# Altium footprint library All.PcbLib: 121 footprints (part 2 of 8)
Each footprint in its own frame and in the unit in brackets; x right, y up, seen from the top. Pads: shape width x height; smd on the part's side, far side on the other; paste and mask are expansions set on the pad; w line width, h text height; cw(c..) or ccw(c..) is an arc to the next point about the centre after c.
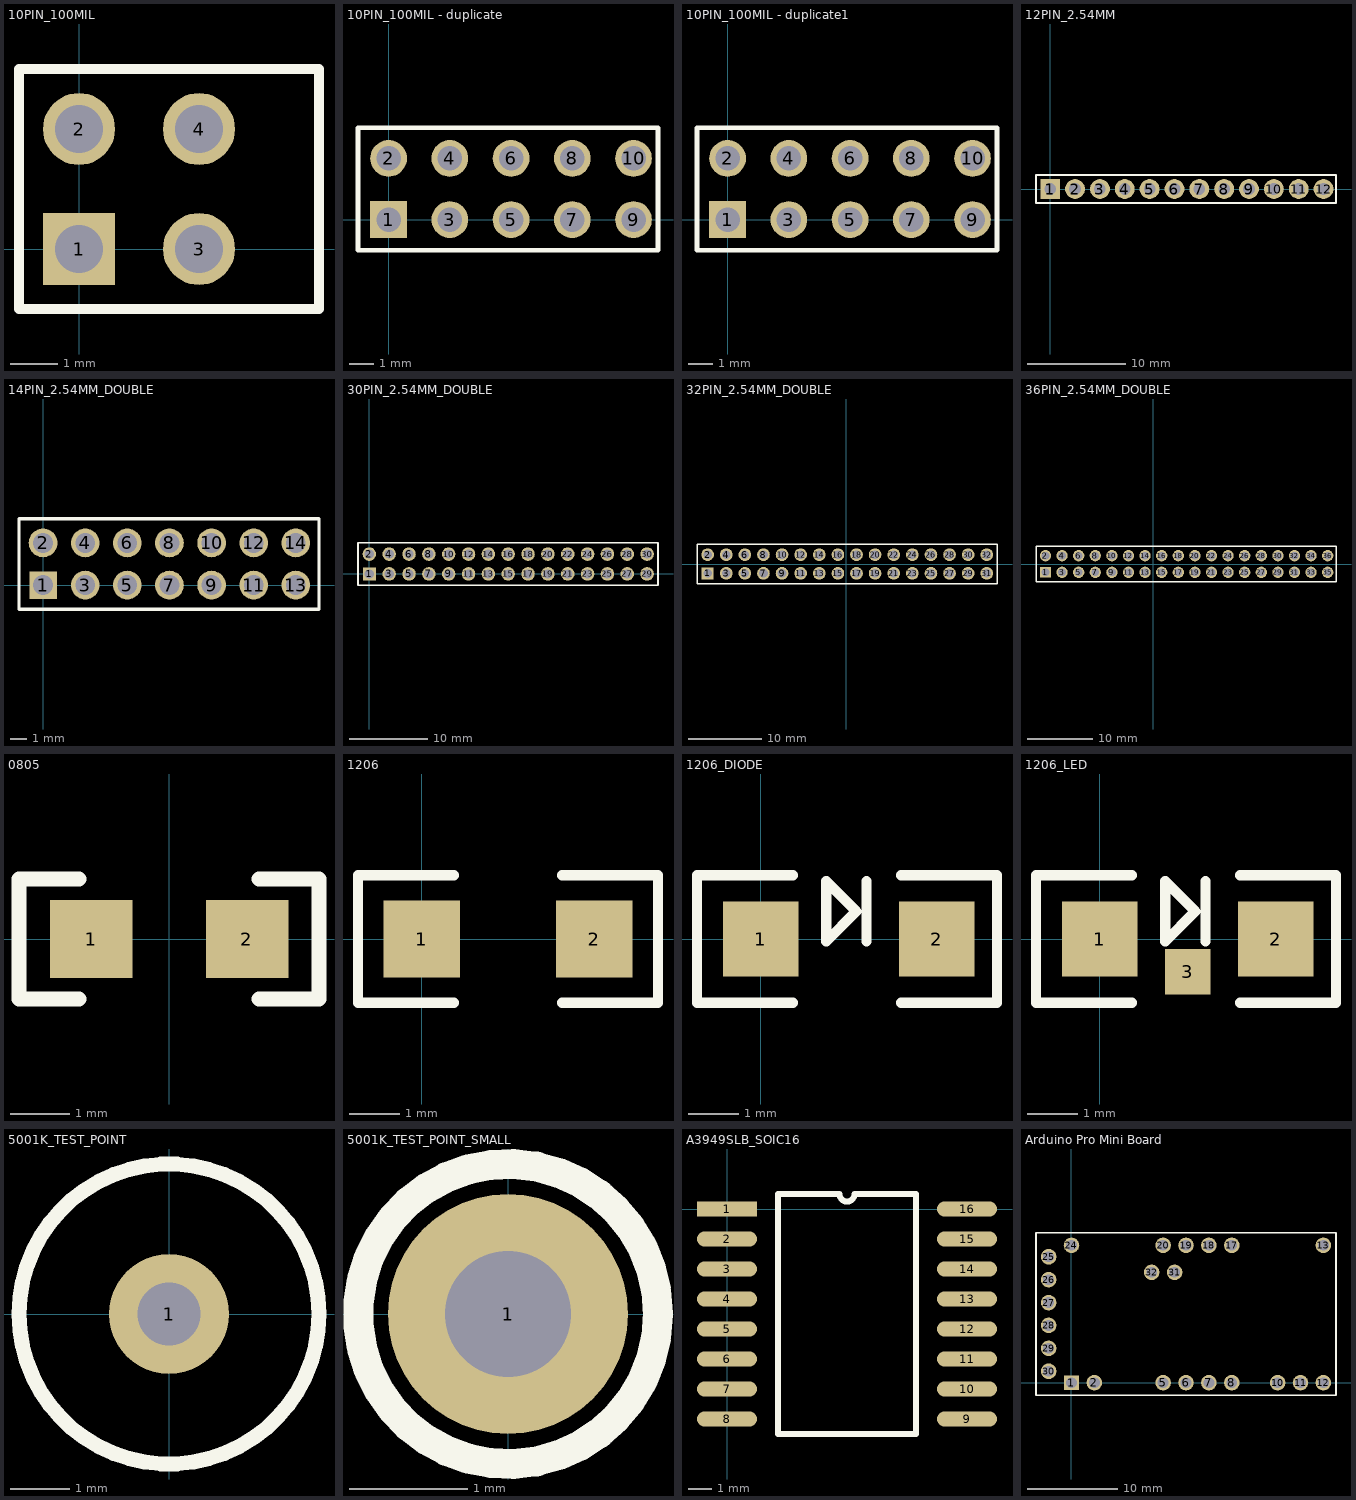
[diagram p1: the footprints below, top view; thin cyan lines are the x and y axes]

## 10PIN_100MIL [mil]
pads (4):
  rect 60x60 hole 40: 1(0,0)
  round 60 hole 40: 2(0,100) 3(100,0) 4(100,100)
Top Overlay:
  lines w8: -50,-50 200,-50 200,150 -50,150 -50,-50

## 10PIN_100MIL - duplicate [mil]
pads (10):
  rect 60x60 hole 40: 1(0,0)
  round 60 hole 40: 2(0,100) 3(100,0) 4(100,100) 5(200,0) 6(200,100) 7(300,0) 8(300,100) 9(400,0) 10(400,100)
Top Overlay:
  lines w8: -50,-50 440,-50 440,150 -50,150 -50,-50

## 10PIN_100MIL - duplicate1 [mil]
pads (10):
  rect 60x60 hole 40: 1(0,0)
  round 60 hole 40: 2(0,100) 3(100,0) 4(100,100) 5(200,0) 6(200,100) 7(300,0) 8(300,100) 9(400,0) 10(400,100)
Top Overlay:
  lines w8: -50,-50 -50,150 440,150 440,-50 -50,-50

## 12PIN_2.54MM [mil]
pads (12):
  rect 80x80 hole 47: 1(0,0)
  round 80 hole 47: 2(100,0) 3(200,0) 4(300,0) 5(400,0) 6(500,0) 7(600,0) 8(700,0) 9(800,0) 10(900,0) 11(1000,0) 12(1100,0)
Top Overlay:
  lines w8: -57.13,-57.13 -57.13,57.13 1150,57.13 1150,-57.13 -57.13,-57.13

## 14PIN_2.54MM_DOUBLE [mil]
pads (14):
  rect 65x65 hole 47: 1(0,0)
  round 68 hole 47: 2(0,100) 3(100,0) 4(100,100) 5(200,0) 6(200,100) 7(300,0) 8(300,100) 9(400,0) 10(400,100) 11(500,0) 12(500,100) 13(600,0) 14(600,100)
Top Overlay:
  lines w8: -57.13,-57.13 -57.13,157.13 655,157.13 655,-57.13 -57.13,-57.13

## 30PIN_2.54MM_DOUBLE [mil]
pads (30):
  rect 65x65 hole 47: 1(0,0)
  round 68 hole 47: 2(0,100) 3(100,0) 4(100,100) 5(200,0) 6(200,100) 7(300,0) 8(300,100) 9(400,0) 10(400,100) 11(500,0) 12(500,100) 13(600,0) 14(600,100) 15(700,0) 16(700,100) 17(800,0) 18(800,100) 19(900,0) 20(900,100) 21(1000,0) 22(1000,100) 23(1100,0) 24(1100,100) 25(1200,0) 26(1200,100) 27(1300,0) 28(1300,100) 29(1400,0) 30(1400,100)
Top Overlay:
  lines w8: -57.13,-57.13 1455,-57.13 1455,157.13 -57.13,157.13 -57.13,-57.13

## 32PIN_2.54MM_DOUBLE [mil]
pads (32):
  rect 65x65 hole 47: 1(-745,-50)
  round 68 hole 47: 2(-745,50) 3(-645,-50) 4(-645,50) 5(-545,-50) 6(-545,50) 7(-445,-50) 8(-445,50) 9(-345,-50) 10(-345,50) 11(-245,-50) 12(-245,50) 13(-145,-50) 14(-145,50) 15(-45,-50) 16(-45,50) 17(55,-50) 18(55,50) 19(155,-50) 20(155,50) 21(255,-50) 22(255,50) 23(355,-50) 24(355,50) 25(455,-50) 26(455,50) 27(555,-50) 28(555,50) 29(655,-50) 30(655,50) 31(755,-50) 32(755,50)
Top Overlay:
  lines w8: -802.13,-107.13 810,-107.13 810,107.13 -802.13,107.13 -802.13,-107.13

## 36PIN_2.54MM_DOUBLE [mil]
pads (36):
  rect 65x65 hole 47: 1(-650,-50)
  round 68 hole 47: 2(-650,50) 3(-550,-50) 4(-550,50) 5(-450,-50) 6(-450,50) 7(-350,-50) 8(-350,50) 9(-250,-50) 10(-250,50) 11(-150,-50) 12(-150,50) 13(-50,-50) 14(-50,50) 15(50,-50) 16(50,50) 17(150,-50) 18(150,50) 19(250,-50) 20(250,50) 21(350,-50) 22(350,50) 23(450,-50) 24(450,50) 25(550,-50) 26(550,50) 27(650,-50) 28(650,50) 29(750,-50) 30(750,50) 31(850,-50) 32(850,50) 33(950,-50) 34(950,50) 35(1050,-50) 36(1050,50)
Top Overlay:
  lines w8: -707.13,-107.13 1100,-107.13 1100,107.13 -707.13,107.13 -707.13,-107.13

## 0805 [mil]
pads (2):
  rect 55x52 smd: 1(-52,0) 2(52,0)
Top Overlay:
  lines w10: -60,-40 -100,-40 -100,40 -60,40 ; 60,-40 100,-40 100,40 60,40

## 1206 [mil]
pads (2):
  rect 60x60 smd: 1(0,0) 2(135,0)
Top Overlay:
  lines w8: 25,-50 -50,-50 -50,50 25,50 ; 110,-50 185,-50 185,50 110,50

## 1206_DIODE [mm]
pads (2):
  rect 1.5x1.5 smd: 1(0,0) 2(3.5,0)
Top Overlay:
  lines w0.203: 0.635,-1.27 -1.27,-1.27 -1.27,1.27 0.635,1.27 ; 2.1,-0.05 2.1,1.15 ; 2.794,-1.27 4.699,-1.27 4.699,1.27 2.794,1.27 ; 1.3,-0.05 1.3,1.15 1.9,0.55 1.3,-0.05

## 1206_LED [mm]
pads (3):
  rect 1.5x1.5 smd: 1(0,0) 2(3.5,0)
  rect 0.9x0.9 smd: 3(1.75,-0.65)
Top Overlay:
  lines w0.203: 0.635,-1.27 -1.27,-1.27 -1.27,1.27 0.635,1.27 ; 2.1,-0.05 2.1,1.15 ; 2.794,-1.27 4.699,-1.27 4.699,1.27 2.794,1.27 ; 1.3,-0.05 1.9,0.55 1.3,1.15 1.3,-0.05

## 5001K_TEST_POINT [mil]
pads (1):
  round 80 hole 42: 1(0,0)
Top Overlay:
  circle w10: c0,0 r100

## 5001K_TEST_POINT_SMALL [mil]
pads (1):
  round 80 hole 42: 1(0,0)
Top Overlay:
  circle w10: c0,0 r50

## A3949SLB_SOIC16 [mil]
pads (16):
  rect 100x25 smd: 1(0,0)
  oval 100x25 smd: 2(0,-50) 3(0,-100) 4(0,-150) 5(0,-200) 6(0,-250) 7(0,-300) 8(0,-350) 9(400,-350) 10(400,-300) 11(400,-250) 12(400,-200) 13(400,-150) 14(400,-100) 15(400,-50) 16(400,0)
Top Overlay:
  lines w10: 85,-375 85,25 187.5,25 ccw(c200,25) 212.5,25 315,25 315,-375 85,-375

## Arduino Pro Mini Board [mil]
pads (23):
  rect 65x65 hole 47: 1(0,0)
  round 68 hole 47: 2(100,0) 5(400,0) 6(500,0) 7(600,0) 8(700,0) 10(900,0) 11(1000,0) 12(1100,0) 13(1100,600) 17(700,600) 18(600,600) 19(500,600) 20(400,600) 24(0,600) 25(-100,550) 26(-100,450) 27(-100,350) 28(-100,250) 29(-100,150) 30(-100,50) 31(450,481.89) 32(350,481.89)
Top Overlay:
  lines w8: -155,-55 1155,-55 1155,655 -155,655 -155,-55